# Altium schematic symbol library MyLibrary.SchLib: 62 symbols
Pins are listed as number, name and electrical type; pins without a type are passive.

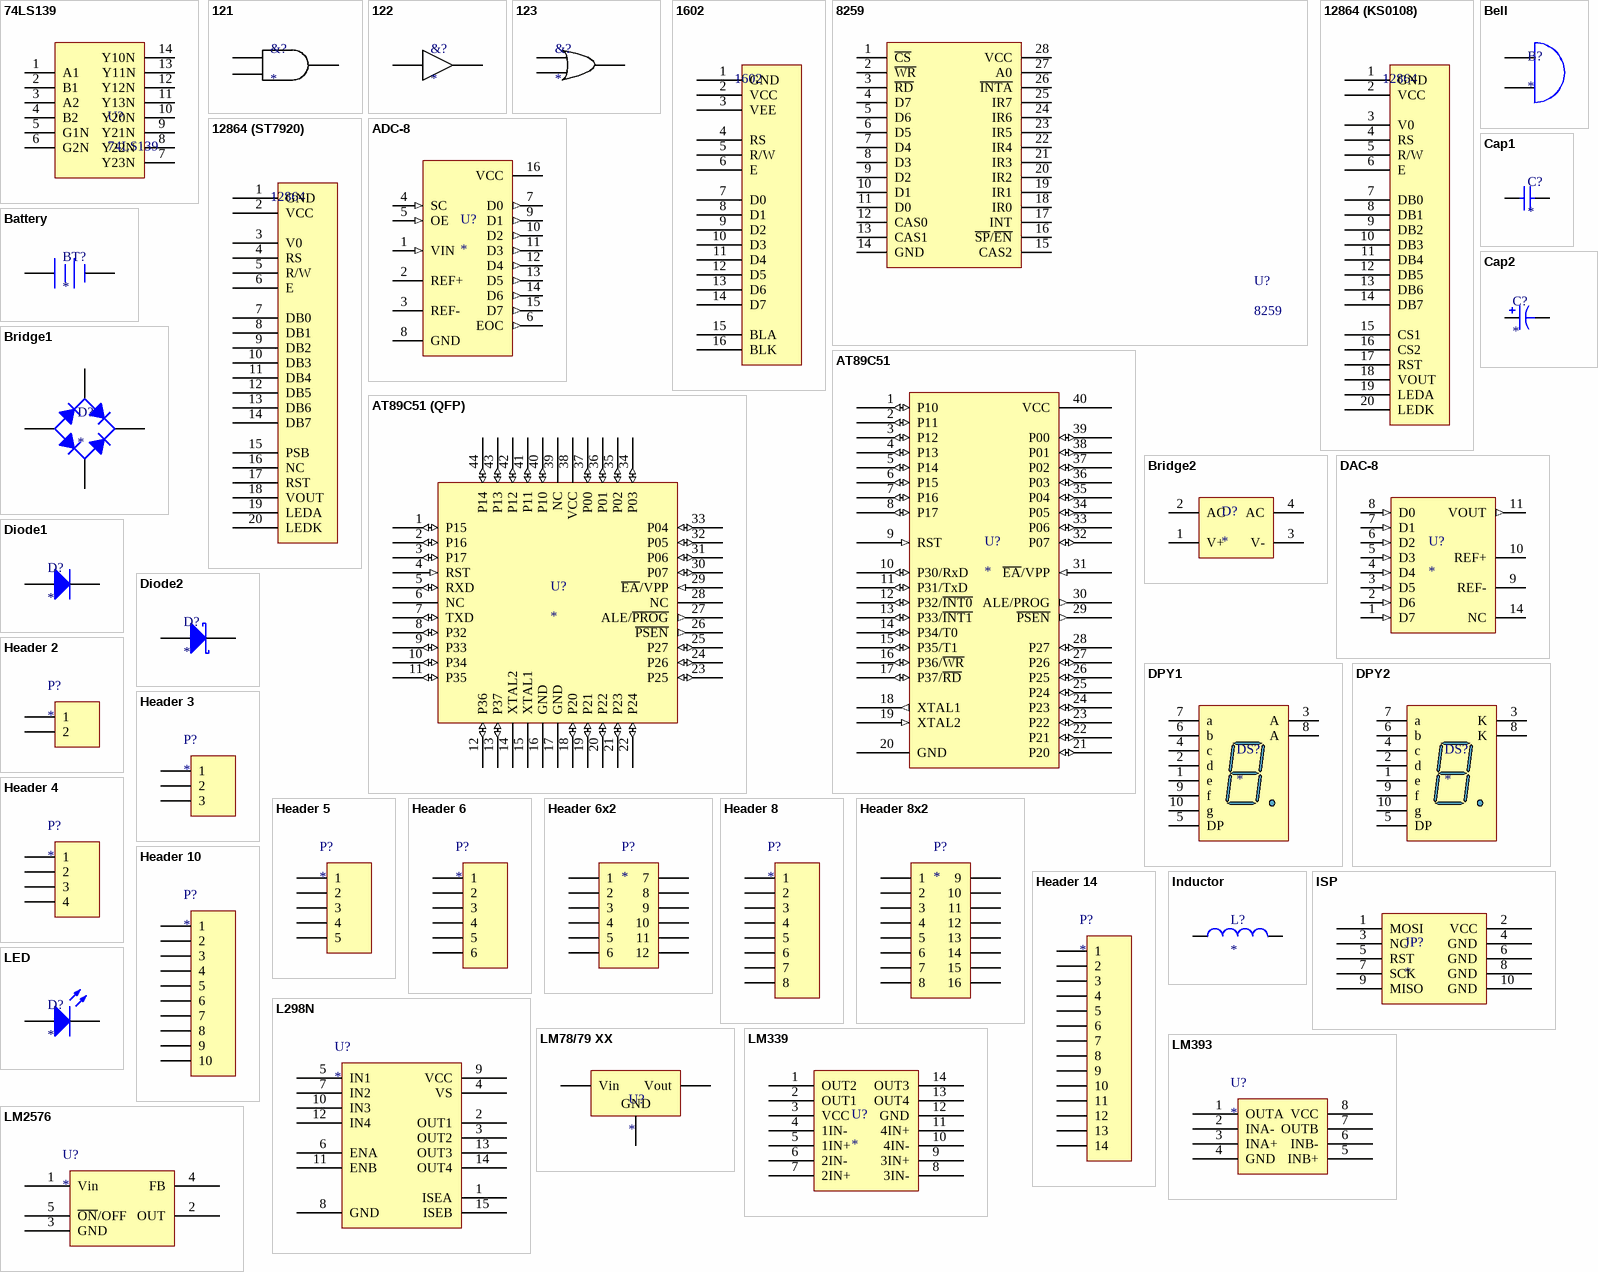
[diagram p0: symbols 74LS139 to LM2576]

## 74LS139
designator U?
pins: 1 A1, 2 B1, 3 A2, 4 B2, 5 G1N, 6 G2N, 7 Y23N, 8 Y22N, 9 Y21N, 10 Y20N, 11 Y13N, 12 Y12N, 13 Y11N, 14 Y10N

## 121
designator &?
pins: 1, 2, 3

## 122
designator &?
pins: 1, 2

## 123
designator &?
pins: 1, 2, 3

## 1602
designator ?
1602液晶显示器
pins: 1 GND, 2 VCC, 3 VEE, 4 RS, 5 R/W, 6 E, 7 D0, 8 D1, 9 D2, 10 D3, 11 D4, 12 D5, 13 D6, 14 D7, 15 BLA, 16 BLK

## 8259
designator U?
pins: 1 ~{CS}, 2 ~{WR}, 3 ~{RD}, 4 D7, 5 D6, 6 D5, 7 D4, 8 D3, 9 D2, 10 D1, 11 D0, 12 CAS0, 13 CAS1, 14 GND, 15 CAS2, 16 ~{SP}/~{EN}, 17 INT, 18 IR0, 19 IR1, 20 IR2, 21 IR3, 22 IR4, 23 IR5, 24 IR6, 25 IR7, 26 ~{INTA}, 27 A0, 28 VCC

## 12864 (KS0108)
designator ?, comment 12864
12864液晶显示器
pins: 1 GND, 2 VCC, 3 V0, 4 RS, 5 R/W, 6 E, 7 DB0, 8 DB1, 9 DB2, 10 DB3, 11 DB4, 12 DB5, 13 DB6, 14 DB7, 15 CS1, 16 CS2, 17 RST, 18 VOUT, 19 LEDA, 20 LEDK

## 12864 (ST7920)
designator ?, comment 12864
12864液晶显示器
pins: 1 GND, 2 VCC, 3 V0, 4 RS, 5 R/W, 6 E, 7 DB0, 8 DB1, 9 DB2, 10 DB3, 11 DB4, 12 DB5, 13 DB6, 14 DB7, 15 PSB, 16 NC, 17 RST, 18 VOUT, 19 LEDA, 20 LEDK

## ADC-8
designator U?
8位ADC; Name: *
pins: 1 VIN (in), 2 REF+, 3 REF-, 4 SC (in), 5 OE (in), 6 EOC (out), 7 D0 (out), 8 GND (power), 9 D1 (out), 10 D2 (out), 11 D3 (out), 12 D4 (out), 13 D5 (out), 14 D6 (out), 15 D7 (out), 16 VCC (power)

## AT89C51
designator U?
C51单片机; Name: *
pins: 1 P10 (io), 2 P11 (io), 3 P12 (io), 4 P13 (io), 5 P14 (io), 6 P15 (io), 7 P16 (io), 8 P17 (io), 9 RST (in), 10 P30/RxD (io), 11 P31/TxD (io), 12 P32/~{INT0} (io), 13 P33/~{INT1} (io), 14 P34/T0 (io), 15 P35/T1 (io), 16 P36/~{WR} (io), 17 P37/~{RD} (io), 18 XTAL1 (out), 19 XTAL2 (in), 20 GND, 21 P20 (io), 22 P21 (io), 23 P22 (io), 24 P23 (io), 25 P24 (io), 26 P25 (io), 27 P26 (io), 28 P27 (io), 29 ~{PSEN} (out), 30 ALE/PROG (out), 31 ~{EA}/VPP (in), 32 P07 (io), 33 P06 (io), 34 P05 (io), 35 P04 (io), 36 P03 (io), 37 P02 (io), 38 P01 (io), 39 P00 (io), 40 VCC

## AT89C51 (QFP)
designator U?
C51单片机; Name: *
pins: 1 P15 (io), 2 P16 (io), 3 P17 (io), 4 RST (in), 5 RXD (io), 6 NC, 7 TXD (io), 8 P32 (io), 9 P33 (io), 10 P34 (io), 11 P35 (io), 12 P36 (io), 13 P37 (io), 14 XTAL2, 15 XTAL1, 16 GND (power), 17 GND (power), 18 P20 (io), 19 P21 (io), 20 P22 (io), 21 P23 (io), 22 P24 (io), 23 P25 (io), 24 P26 (io), 25 P27 (io), 26 ~{PSEN} (out), 27 ALE/~{PROG} (out), 28 NC, 29 ~{EA}/VPP (in), 30 P07 (io), 31 P06 (io), 32 P05 (io), 33 P04 (io), 34 P03 (io), 35 P02 (io), 36 P01 (io), 37 P00 (io), 38 VCC (power), 39 NC, 40 P10 (io), 41 P11 (io), 42 P12 (io), 43 P13 (io), 44 P14 (io)

## Battery
designator BT?
电源
pins: 1 +, 2 -

## Bell
designator B?
蜂鸣器
pins: 1 A, 2 B

## Bridge1
designator D?
晶体管滤波整流桥; Name: *
pins: 1 K, 2 C, 3 A, 4 C

## Bridge2
designator D?
晶体管整流桥; Name: *
pins: 1 V+, 2 AC, 3 V-, 4 AC

## Cap1
designator C?
电容; Value: *
pins: 1, 2

## Cap2
designator C?
电解电容; Value: *
pins: 1, 2

## DAC-8
designator U?
8位DAC; Name: *
pins: 1 D7 (in), 2 D6 (in), 3 D5 (in), 4 D4 (in), 5 D3 (in), 6 D2 (in), 7 D1 (in), 8 D0 (in), 9 REF-, 10 REF+, 11 VOUT (out), 14 NC

## Diode1
designator D?
普通/整流二极管; Name: *
pins: 1 A, 2 K

## Diode2
designator D?
肖特基二极管; Name: *
pins: 1 A, 3 K

## DPY1
designator DS?
共阳极数码管
pins: 1 e "Cathode", 2 d "Cathode", 3 A "Common Anode", 4 c "Cathode", 5 DP "Cathode", 6 b "Cathode", 7 a "Cathode", 8 A "Common Anode", 9 f "Cathode", 10 g "Cathode"

## DPY2
designator DS?
共阴极数码管
pins: 1 e "Anode", 2 d "Anode", 3 K "Common Cathode", 4 c "Anode", 5 DP "Anode", 6 b "Anode", 7 a "Anode", 8 K "Common Cathode", 9 f "Anode", 10 g "Anode"

## Header 2
designator P?
2PIN
pins: 1, 2

## Header 3
designator P?
3PIN
pins: 1, 2, 3

## Header 4
designator P?
4PIN
pins: 1, 2, 3, 4

## Header 5
designator P?
5PIN
pins: 1, 2, 3, 4, 5

## Header 6
designator P?
6PIN
pins: 1, 2, 3, 4, 5, 6

## Header 6x2
designator P?
6PIN两排
pins: 1, 2, 3, 4, 5, 6, 7, 8, 9, 10, 11, 12

## Header 8
designator P?
8PIN
pins: 1, 2, 3, 4, 5, 6, 7, 8

## Header 8x2
designator P?
8PIN两排
pins: 1, 2, 3, 4, 5, 6, 7, 8, 9, 10, 11, 12, 13, 14, 15, 16

## Header 10
designator P?
10PIN
pins: 1, 2, 3, 4, 5, 6, 7, 8, 9, 10

## Header 14
designator P?
14PIN
pins: 1, 2, 3, 4, 5, 6, 7, 8, 9, 10, 11, 12, 13, 14

## Inductor
designator L?
电感; Value: *
pins: 1, 2

## ISP
designator JP?
Atmel ISP; Name: *
pins: 1 MOSI, 2 VCC, 3 NC, 4 GND, 5 RST, 6 GND, 7 SCK, 8 GND, 9 MISO, 10 GND

## L298N
designator U?
直流电机驱动芯片; Name: *
pins: 1 ISEA, 2 OUT1, 3 OUT2, 4 VS, 5 IN1, 6 ENA, 7 IN2, 8 GND, 9 VCC, 10 IN3, 11 ENB, 12 IN4, 13 OUT3, 14 OUT4, 15 ISEB

## LED
designator D?
LED灯
pins: 1 A, 2 K

## LM78/79 XX
designator U?
LM78/79系列稳压芯片; Name: *
pins: 1 Vin, 2 GND, 3 Vout

## LM339
designator U?
电压比较芯片; Name: *
pins: 1 OUT2, 2 OUT1, 3 VCC, 4 1IN-, 5 1IN+, 6 2IN-, 7 2IN+, 8 3IN-, 9 3IN+, 10 4IN-, 11 4IN+, 12 GND, 13 OUT4, 14 OUT3

## LM393
designator U?
电压比较器; Name: *
pins: 1 OUTA, 2 INA-, 3 INA+, 4 GND, 5 INB+, 6 INB-, 7 OUTB, 8 VCC

## LM2576
designator U?
LM2576系列; Name: *
pins: 1 Vin, 2 OUT, 3 GND, 4 FB, 5 ~{ON}/OFF

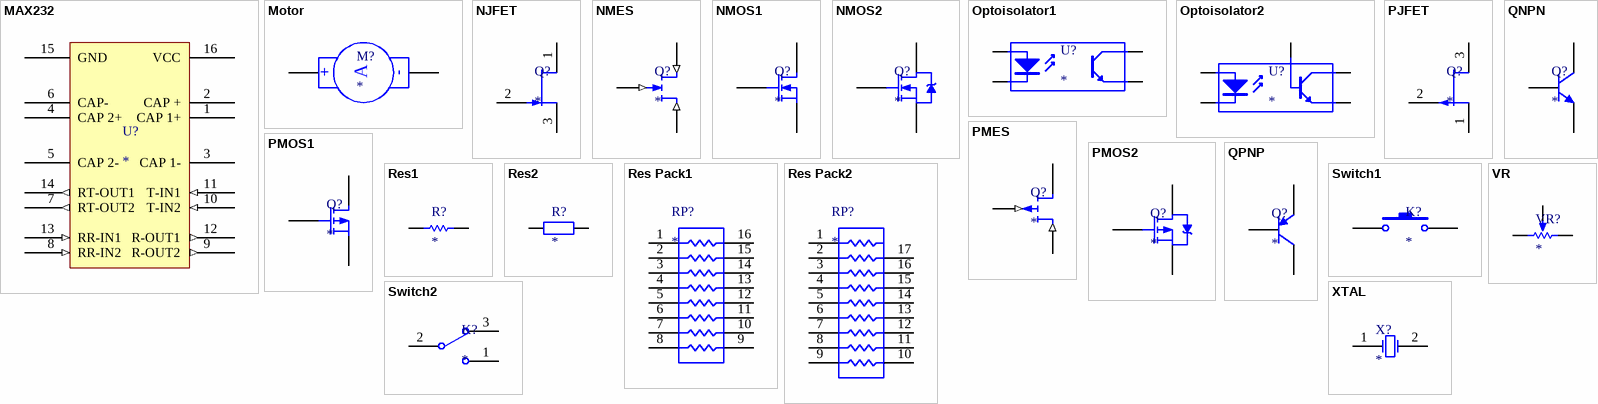
[diagram p1: symbols MAX232 to XTAL]

## MAX232
designator U?
单电源电平转换芯片; Name: *
pins: 1 CAP 1+, 2 CAP +, 3 CAP 1-, 4 CAP 2+, 5 CAP 2-, 6 CAP-, 7 RT-OUT2 (out), 8 RR-IN2 (in), 9 R-OUT2 (out), 10 T-IN2 (in), 11 T-IN1 (in), 12 R-OUT1 (out), 13 RR-IN1 (in), 14 RT-OUT1 (out), 15 GND (power), 16 VCC (power)

## Motor
designator M?
直流电机
pins: 1 +, 2 -
text: A

## NJFET
designator Q?
N型结晶场效应管; Name: *
pins: 1 D, 2 G, 3 S

## NMES
designator Q?
N型MES管; Name: *
pins: 1 D (in), 2 G (in), 3 S (in)

## NMOS1
designator Q?
N型MOS管; Name: *
pins: 1 D, 2 G, 3 S

## NMOS2
designator Q?
N型MOS管; Name: *
pins: 1 G, 2 D, 3 S

## Optoisolator1
designator U?
4PIN光耦合器; Name: *
pins: 1 A "Anode", 2 K "Cathode", 3 E "Emitter", 4 C "Collector"

## Optoisolator2
designator U?
5PIN光耦合器; Name: *
pins: 1 A "Anode", 3 K "Cathode", 4 E "Emitter", 5 C "Collector", 6 B "Base"

## PJFET
designator Q?
P型结晶场效应管; Name: *
pins: 1 D, 2 G, 3 S

## PMES
designator Q?
P型MES管; Name: *
pins: 1 D (in), 2 G (in), 3 S

## PMOS1
designator Q?
P型MOS管; Name: *
pins: 1 D, 2 G, 3 S

## PMOS2
designator Q?
P型MOS管; Name: *
pins: 1 G, 2 D, 3 S

## QNPN
designator Q?
NPN三极管; Name: *
pins: 1 C, 2 B, 3 E

## QPNP
designator Q?
PNN三极管; Name: *
pins: 1 C, 2 B, 3 E

## Res1
designator R?
电阻; Value: *
pins: 1, 2

## Res2
designator R?
电阻; Value: *
pins: 1, 2

## Res Pack1
designator RP?
8PIN排阻; Value: *
pins: 1, 2, 3, 4, 5, 6, 7, 8, 9, 10, 11, 12, 13, 14, 15, 16

## Res Pack2
designator RP?
9PIN排阻; Value: *
pins: 1, 2, 3, 4, 5, 6, 7, 8, 9, 10, 11, 12, 13, 14, 15, 16, 17

## Switch1
designator K?
按键/单刀单掷开关
pins: 1, 2

## Switch2
designator K?
单刀双掷开关
pins: 1, 2, 3

## VR
designator VR?
可变电阻器; Value: *
pins: 1 TOP, 2 TAP, 3 BOT

## XTAL
designator X?
晶振; Value: *
pins: 1 OSC1, 2 OSC2